# Altium integrated library Silicon Labs Low-Power MCUs.IntLib: 64 symbols (part 4 of 4)
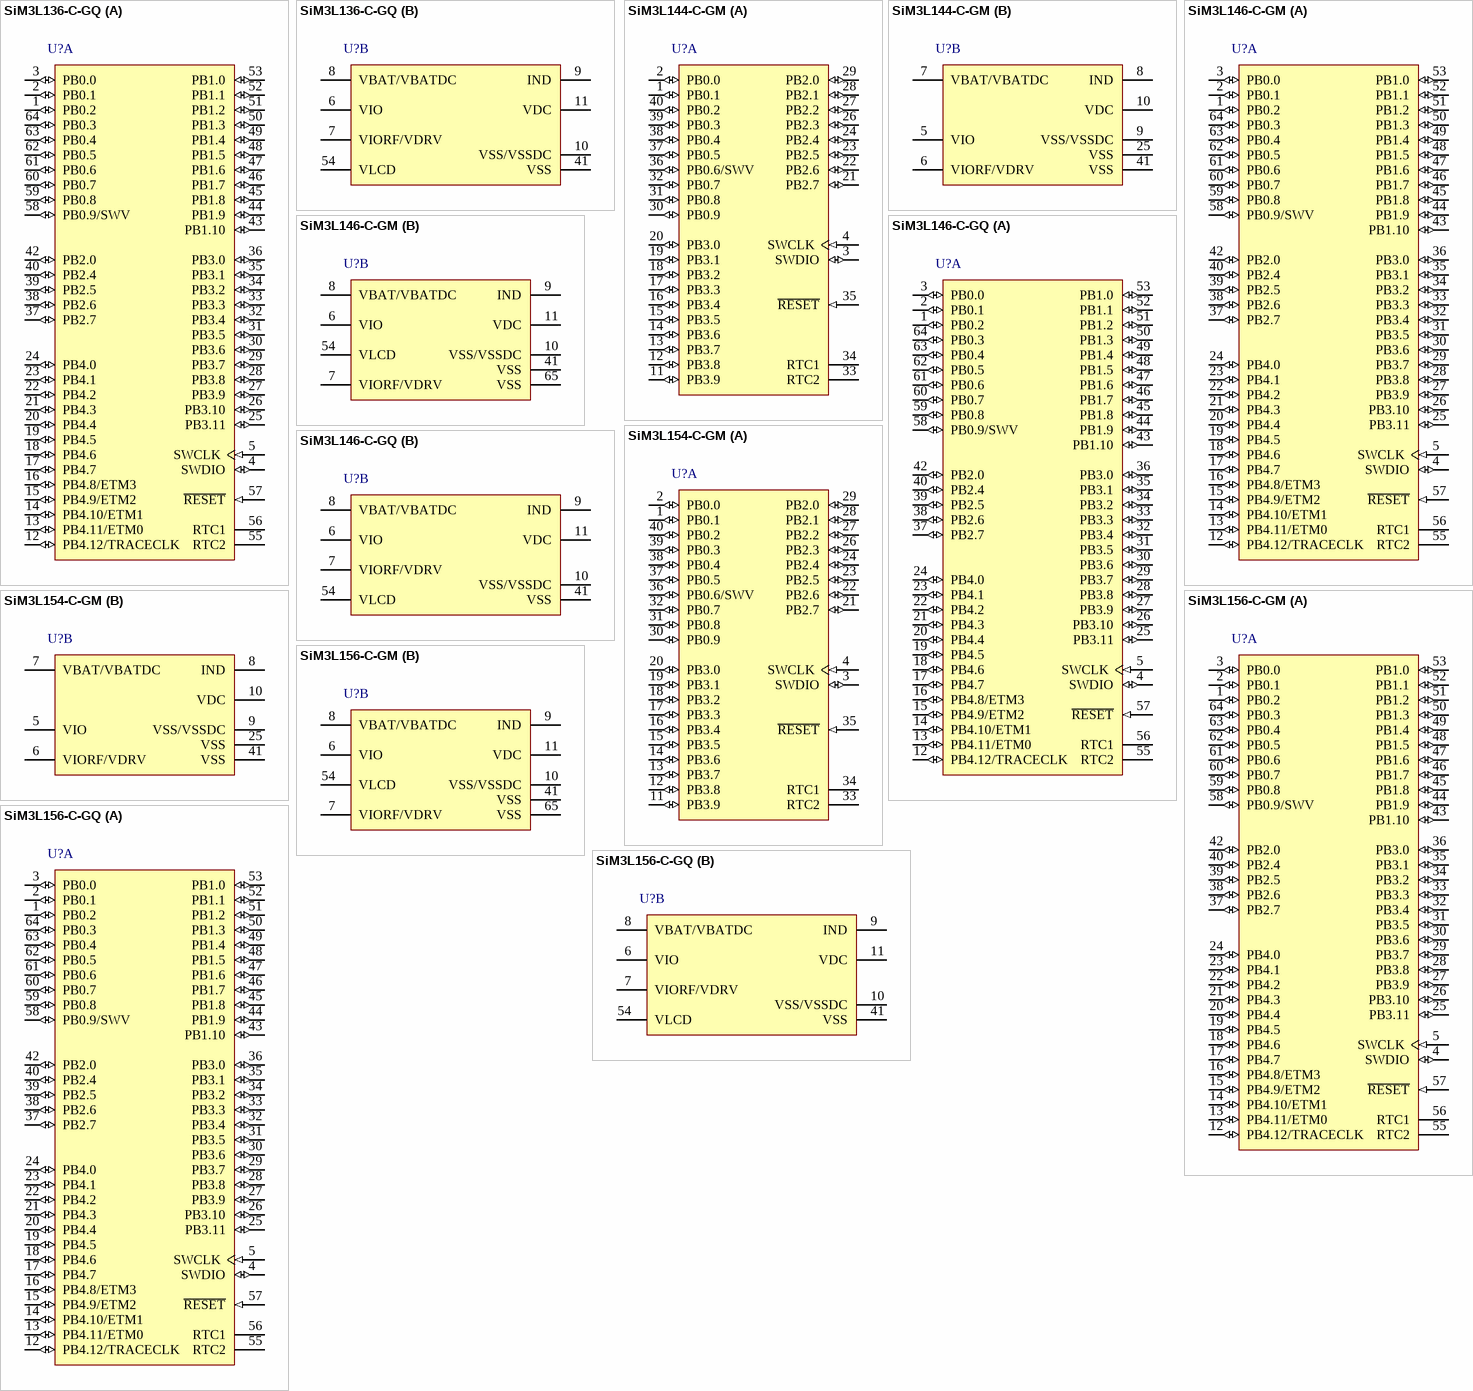
[diagram p8: symbols SiM3L136-C-GQ to SiM3L156-C-GQ]

## SiM3L144-C-GM
designator U?
High-Performance, Low-Power, 32-Bit Precision32(TM) MCU Family, 50 MHz, 16 kB RAM, 64 kB Flash, -40 to 85 degC, 40-pin QFN; Manufacturer: Silicon Labs; PartNumber: SiM3L144-C-GM; ADC 1: 12-bit, 20-ch., 250 ksps; Comparators: 2; DAC: 10-bit; Debug Interface: SW; Dig I/O Pins: 28; Flash: 64 kB; Internal Osc. Accuracy: +/-2%; MCU Core: ARM Cortex-M3; MHz: 50; PCA Channels: 6; RAM: 16 kB; Temp Sensor: TRUE; Timers (16-bit): 3; Sub-Family: Low-Power MCUs; DatasheetVersion: Rev. 0.5; PackageReference: QFN-40; PackageDescription: 40-Pin Quad-Flat No-Leads Package, Body 6 x 6 mm, Pitch 0.5 mm; Supplier 1: Digi-Key; Supplier Part Number 1: 336-2342-ND; Supplier 2: Mouser; Supplier Part Number 2: 634-SIM3L144-C-GM; Mounting Technology: Surface Mount; Code_JEDEC: MO-220; Code_IPC: J-STD-020; ComponentLink1Description: Manufacturer URL; ComponentLink1URL: http://www.silabs.com/; ComponentLink2Description: Datasheet; ComponentLink2URL: http://www.silabs.com/Support Documents/TechnicalDocs/SiM3L1xx.pdf; ComponentLink3Description: Package Specification; ComponentLink3URL: http://www.silabs.com/Support%20Documents/TechnicalDocs/SiM3L1xx.pdf
footprint SLAB-QFN-40-4500x4500TP_N (QFN, 40-Leads, Body 6x6mm, Pitch 0.5mm, Thermal Pad 4.5x4.5mm, IPC Medium Density)
footprint SLAB-QFN-40-4500x4500TP_L (QFN, 40-Leads, Body 6x6mm, Pitch 0.5mm, Thermal Pad 4.5x4.5mm, IPC High Density)
footprint SLAB-QFN-40-4500x4500TP_M (QFN, 40-Leads, Body 6x6mm, Pitch 0.5mm, Thermal Pad 4.5x4.5mm, IPC Low Density)
part A pins: 1 PB0.1 (io), 2 PB0.0 (io), 3 SWDIO (io), 4 SWCLK (in), 11 PB3.9 (io), 12 PB3.8 (io), 13 PB3.7 (io), 14 PB3.6 (io), 15 PB3.5 (io), 16 PB3.4 (io), 17 PB3.3 (io), 18 PB3.2 (io), 19 PB3.1 (io), 20 PB3.0 (io), 21 PB2.7 (io), 22 PB2.6 (io), 23 PB2.5 (io), 24 PB2.4 (io), 26 PB2.3 (io), 27 PB2.2 (io), 28 PB2.1 (io), 29 PB2.0 (io), 30 PB0.9 (io), 31 PB0.8 (io), 32 PB0.7 (io), 33 RTC2, 34 RTC1, 35 ~{RESET} (in), 36 PB0.6/SWV (io), 37 PB0.5 (io), 38 PB0.4 (io), 39 PB0.3 (io), 40 PB0.2 (io)
part B pins: 5 VIO (power), 6 VIORF/VDRV (power), 7 VBAT/VBATDC (power), 8 IND, 9 VSS/VSSDC (power), 10 VDC (power), 25 VSS (power), 41 VSS (power)

## SiM3L146-C-GM
designator U?
High-Performance, Low-Power, 32-Bit Precision32(TM) MCU Family, 50 MHz, 16 kB RAM, 64 kB Flash, -40 to 85 degC, 64-pin QFN; Manufacturer: Silicon Labs; PartNumber: SiM3L146-C-GM; ADC 1: 12-bit, 23-ch., 250 ksps; Comparators: 2; DAC: 10-bit; Debug Interface: ETM; SW; Dig I/O Pins: 51; Flash: 64 kB; Internal Osc. Accuracy: +/-2%; MCU Core: ARM Cortex-M3; MHz: 50; PCA Channels: 6; RAM: 16 kB; Temp Sensor: TRUE; Timers (16-bit): 3; Sub-Family: Low-Power MCUs; DatasheetVersion: Rev. 0.5; PackageReference: QFN-64; PackageDescription: 64-Pin Quad-Flat No-Leads Package, Body 9 x 9 mm, Pitch 0.5 mm; Supplier 1: Digi-Key; Supplier Part Number 1: 336-2337-ND; Supplier 2: Mouser; Supplier Part Number 2: 634-SIM3L146-C-GM; Mounting Technology: Surface Mount; Code_JEDEC: MO-220; Code_IPC: J-STD-020; ComponentLink1Description: Manufacturer URL; ComponentLink1URL: http://www.silabs.com/; ComponentLink2Description: Datasheet; ComponentLink2URL: http://www.silabs.com/Support Documents/TechnicalDocs/SiM3L1xx.pdf; ComponentLink3Description: Package Specification; ComponentLink3URL: http://www.silabs.com/Support%20Documents/TechnicalDocs/SiM3U1xx.pdf
footprint SLAB-QFN-64-4100x4100TP_N (QFN, 64-Leads, Body 9x9mm, Pitch 0.5mm, Thermal Pad 4.1x4.1mm, IPC Medium Density)
footprint SLAB-QFN-64-4100x4100TP_L (QFN, 64-Leads, Body 9x9mm, Pitch 0.5mm, Thermal Pad 4.1x4.1mm, IPC High Density)
footprint SLAB-QFN-64-4100x4100TP_M (QFN, 64-Leads, Body 9x9mm, Pitch 0.5mm, Thermal Pad 4.1x4.1mm, IPC Low Density)
part A pins: 1 PB0.2 (io), 2 PB0.1 (io), 3 PB0.0 (io), 4 SWDIO (io), 5 SWCLK (in), 12 PB4.12/TRACECLK (io), 13 PB4.11/ETM0 (io), 14 PB4.10/ETM1 (io), 15 PB4.9/ETM2 (io), 16 PB4.8/ETM3 (io), 17 PB4.7 (io), 18 PB4.6 (io), 19 PB4.5 (io), 20 PB4.4 (io), 21 PB4.3 (io), 22 PB4.2 (io), 23 PB4.1 (io), 24 PB4.0 (io), 25 PB3.11 (io), 26 PB3.10 (io), 27 PB3.9 (io), 28 PB3.8 (io), 29 PB3.7 (io), 30 PB3.6 (io), 31 PB3.5 (io), 32 PB3.4 (io), 33 PB3.3 (io), 34 PB3.2 (io), 35 PB3.1 (io), 36 PB3.0 (io), 37 PB2.7 (io), 38 PB2.6 (io), 39 PB2.5 (io), 40 PB2.4 (io), 42 PB2.0 (io), 43 PB1.10 (io), 44 PB1.9 (io), 45 PB1.8 (io), 46 PB1.7 (io), 47 PB1.6 (io), 48 PB1.5 (io), 49 PB1.4 (io), 50 PB1.3 (io), 51 PB1.2 (io), 52 PB1.1 (io), 53 PB1.0 (io), 55 RTC2, 56 RTC1, 57 ~{RESET} (in), 58 PB0.9/SWV (io), 59 PB0.8 (io), 60 PB0.7 (io), 61 PB0.6 (io), 62 PB0.5 (io), 63 PB0.4 (io), 64 PB0.3 (io)
part B pins: 6 VIO (power), 7 VIORF/VDRV (power), 8 VBAT/VBATDC (power), 9 IND, 10 VSS/VSSDC (power), 11 VDC (power), 41 VSS (power), 54 VLCD (power), 65 VSS (power)

## SiM3L146-C-GQ
designator U?
High-Performance, Low-Power, 32-Bit Precision32(TM) MCU Family, 50 MHz, 16 kB RAM, 64 kB Flash, -40 to 85 degC, 64-pin QFP; Manufacturer: Silicon Labs; PartNumber: SiM3L146-C-GQ; ADC 1: 12-bit, 23-ch., 250 ksps; Comparators: 2; DAC: 10-bit; Debug Interface: ETM; SW; Dig I/O Pins: 51; Flash: 64 kB; Internal Osc. Accuracy: +/-2%; MCU Core: ARM Cortex-M3; MHz: 50; PCA Channels: 6; RAM: 16 kB; Temp Sensor: TRUE; Timers (16-bit): 3; Sub-Family: Low-Power MCUs; DatasheetVersion: Rev. 0.5; PackageReference: TQFP-64; PackageDescription: 64-Pin Thin Quad Flat Package, Body 10 x 10 mm, Pitch 0.5 mm; Supplier 1: Digi-Key; Supplier Part Number 1: 336-2336-ND; Supplier 2: Mouser; Supplier Part Number 2: 634-SIM3L146-C-GQ; Mounting Technology: Surface Mount; Code_JEDEC: MS-026; Code_IPC: J-STD-020; ComponentLink1Description: Manufacturer URL; ComponentLink1URL: http://www.silabs.com/; ComponentLink2Description: Datasheet; ComponentLink2URL: http://www.silabs.com/Support Documents/TechnicalDocs/SiM3L1xx.pdf; ComponentLink3Description: Package Specification; ComponentLink3URL: http://www.silabs.com/Support%20Documents/TechnicalDocs/C8051F70x.pdf
footprint SLAB-TQFP-64_N (QFP, 64-Leads, Body 10x10mm, Pitch 0.5mm, IPC Medium Density)
footprint SLAB-TQFP-64_L (QFP, 64-Leads, Body 10x10mm, Pitch 0.5mm, IPC High Density)
footprint SLAB-TQFP-64_M (QFP, 64-Leads, Body 10x10mm, Pitch 0.5mm, IPC Low Density)
part A pins: 1 PB0.2 (io), 2 PB0.1 (io), 3 PB0.0 (io), 4 SWDIO (io), 5 SWCLK (in), 12 PB4.12/TRACECLK (io), 13 PB4.11/ETM0 (io), 14 PB4.10/ETM1 (io), 15 PB4.9/ETM2 (io), 16 PB4.8/ETM3 (io), 17 PB4.7 (io), 18 PB4.6 (io), 19 PB4.5 (io), 20 PB4.4 (io), 21 PB4.3 (io), 22 PB4.2 (io), 23 PB4.1 (io), 24 PB4.0 (io), 25 PB3.11 (io), 26 PB3.10 (io), 27 PB3.9 (io), 28 PB3.8 (io), 29 PB3.7 (io), 30 PB3.6 (io), 31 PB3.5 (io), 32 PB3.4 (io), 33 PB3.3 (io), 34 PB3.2 (io), 35 PB3.1 (io), 36 PB3.0 (io), 37 PB2.7 (io), 38 PB2.6 (io), 39 PB2.5 (io), 40 PB2.4 (io), 42 PB2.0 (io), 43 PB1.10 (io), 44 PB1.9 (io), 45 PB1.8 (io), 46 PB1.7 (io), 47 PB1.6 (io), 48 PB1.5 (io), 49 PB1.4 (io), 50 PB1.3 (io), 51 PB1.2 (io), 52 PB1.1 (io), 53 PB1.0 (io), 55 RTC2, 56 RTC1, 57 ~{RESET} (in), 58 PB0.9/SWV (io), 59 PB0.8 (io), 60 PB0.7 (io), 61 PB0.6 (io), 62 PB0.5 (io), 63 PB0.4 (io), 64 PB0.3 (io)
part B pins: 6 VIO (power), 7 VIORF/VDRV (power), 8 VBAT/VBATDC (power), 9 IND, 10 VSS/VSSDC (power), 11 VDC (power), 41 VSS (power), 54 VLCD (power)

## SiM3L154-C-GM
designator U?
High-Performance, Low-Power, 32-Bit Precision32(TM) MCU Family, 50 MHz, 32 kB RAM, 128 kB Flash, -40 to 85 degC, 40-pin QFN; Manufacturer: Silicon Labs; PartNumber: SiM3L154-C-GM; ADC 1: 12-bit, 20-ch., 250 ksps; Comparators: 2; DAC: 10-bit; Debug Interface: SW; Dig I/O Pins: 28; Flash: 128 kB; Internal Osc. Accuracy: +/-2%; MCU Core: ARM Cortex-M3; MHz: 50; PCA Channels: 6; RAM: 32 kB; Temp Sensor: TRUE; Timers (16-bit): 3; Sub-Family: Low-Power MCUs; DatasheetVersion: Rev. 0.5; PackageReference: QFN-40; PackageDescription: 40-Pin Quad-Flat No-Leads Package, Body 6 x 6 mm, Pitch 0.5 mm; Supplier 1: Digi-Key; Supplier Part Number 1: 336-2340-ND; Supplier 2: Mouser; Supplier Part Number 2: 634-SIM3L154-C-GM; Mounting Technology: Surface Mount; Code_JEDEC: MO-220; Code_IPC: J-STD-020; ComponentLink1Description: Manufacturer URL; ComponentLink1URL: http://www.silabs.com/; ComponentLink2Description: Datasheet; ComponentLink2URL: http://www.silabs.com/Support Documents/TechnicalDocs/SiM3L1xx.pdf; ComponentLink3Description: Package Specification; ComponentLink3URL: http://www.silabs.com/Support%20Documents/TechnicalDocs/SiM3L1xx.pdf
footprint SLAB-QFN-40-4500x4500TP_N (QFN, 40-Leads, Body 6x6mm, Pitch 0.5mm, Thermal Pad 4.5x4.5mm, IPC Medium Density)
footprint SLAB-QFN-40-4500x4500TP_L (QFN, 40-Leads, Body 6x6mm, Pitch 0.5mm, Thermal Pad 4.5x4.5mm, IPC High Density)
footprint SLAB-QFN-40-4500x4500TP_M (QFN, 40-Leads, Body 6x6mm, Pitch 0.5mm, Thermal Pad 4.5x4.5mm, IPC Low Density)
part A pins: 1 PB0.1 (io), 2 PB0.0 (io), 3 SWDIO (io), 4 SWCLK (in), 11 PB3.9 (io), 12 PB3.8 (io), 13 PB3.7 (io), 14 PB3.6 (io), 15 PB3.5 (io), 16 PB3.4 (io), 17 PB3.3 (io), 18 PB3.2 (io), 19 PB3.1 (io), 20 PB3.0 (io), 21 PB2.7 (io), 22 PB2.6 (io), 23 PB2.5 (io), 24 PB2.4 (io), 26 PB2.3 (io), 27 PB2.2 (io), 28 PB2.1 (io), 29 PB2.0 (io), 30 PB0.9 (io), 31 PB0.8 (io), 32 PB0.7 (io), 33 RTC2, 34 RTC1, 35 ~{RESET} (in), 36 PB0.6/SWV (io), 37 PB0.5 (io), 38 PB0.4 (io), 39 PB0.3 (io), 40 PB0.2 (io)
part B pins: 5 VIO (power), 6 VIORF/VDRV (power), 7 VBAT/VBATDC (power), 8 IND, 9 VSS/VSSDC (power), 10 VDC (power), 25 VSS (power), 41 VSS (power)

## SiM3L156-C-GM
designator U?
High-Performance, Low-Power, 32-Bit Precision32(TM) MCU Family, 50 MHz, 32 kB RAM, 128 kB Flash, -40 to 85 degC, 64-pin QFN; Manufacturer: Silicon Labs; PartNumber: SiM3L156-C-GM; ADC 1: 12-bit, 23-ch., 250 ksps; Comparators: 2; DAC: 10-bit; Debug Interface: ETM; SW; Dig I/O Pins: 51; Flash: 128 kB; Internal Osc. Accuracy: +/-2%; MCU Core: ARM Cortex-M3; MHz: 50; PCA Channels: 6; RAM: 32 kB; Temp Sensor: TRUE; Timers (16-bit): 3; Sub-Family: Low-Power MCUs; DatasheetVersion: Rev. 0.5; PackageReference: QFN-64; PackageDescription: 64-Pin Quad-Flat No-Leads Package, Body 9 x 9 mm, Pitch 0.5 mm; Supplier 1: Digi-Key; Supplier Part Number 1: 336-2338-ND; Supplier 2: Mouser; Supplier Part Number 2: 634-SIM3L156-C-GM; Mounting Technology: Surface Mount; Code_JEDEC: MO-220; Code_IPC: J-STD-020; ComponentLink1Description: Manufacturer URL; ComponentLink1URL: http://www.silabs.com/; ComponentLink2Description: Datasheet; ComponentLink2URL: http://www.silabs.com/Support Documents/TechnicalDocs/SiM3L1xx.pdf; ComponentLink3Description: Package Specification; ComponentLink3URL: http://www.silabs.com/Support%20Documents/TechnicalDocs/SiM3U1xx.pdf
footprint SLAB-QFN-64-4100x4100TP_N (QFN, 64-Leads, Body 9x9mm, Pitch 0.5mm, Thermal Pad 4.1x4.1mm, IPC Medium Density)
footprint SLAB-QFN-64-4100x4100TP_L (QFN, 64-Leads, Body 9x9mm, Pitch 0.5mm, Thermal Pad 4.1x4.1mm, IPC High Density)
footprint SLAB-QFN-64-4100x4100TP_M (QFN, 64-Leads, Body 9x9mm, Pitch 0.5mm, Thermal Pad 4.1x4.1mm, IPC Low Density)
part A pins: 1 PB0.2 (io), 2 PB0.1 (io), 3 PB0.0 (io), 4 SWDIO (io), 5 SWCLK (in), 12 PB4.12/TRACECLK (io), 13 PB4.11/ETM0 (io), 14 PB4.10/ETM1 (io), 15 PB4.9/ETM2 (io), 16 PB4.8/ETM3 (io), 17 PB4.7 (io), 18 PB4.6 (io), 19 PB4.5 (io), 20 PB4.4 (io), 21 PB4.3 (io), 22 PB4.2 (io), 23 PB4.1 (io), 24 PB4.0 (io), 25 PB3.11 (io), 26 PB3.10 (io), 27 PB3.9 (io), 28 PB3.8 (io), 29 PB3.7 (io), 30 PB3.6 (io), 31 PB3.5 (io), 32 PB3.4 (io), 33 PB3.3 (io), 34 PB3.2 (io), 35 PB3.1 (io), 36 PB3.0 (io), 37 PB2.7 (io), 38 PB2.6 (io), 39 PB2.5 (io), 40 PB2.4 (io), 42 PB2.0 (io), 43 PB1.10 (io), 44 PB1.9 (io), 45 PB1.8 (io), 46 PB1.7 (io), 47 PB1.6 (io), 48 PB1.5 (io), 49 PB1.4 (io), 50 PB1.3 (io), 51 PB1.2 (io), 52 PB1.1 (io), 53 PB1.0 (io), 55 RTC2, 56 RTC1, 57 ~{RESET} (in), 58 PB0.9/SWV (io), 59 PB0.8 (io), 60 PB0.7 (io), 61 PB0.6 (io), 62 PB0.5 (io), 63 PB0.4 (io), 64 PB0.3 (io)
part B pins: 6 VIO (power), 7 VIORF/VDRV (power), 8 VBAT/VBATDC (power), 9 IND, 10 VSS/VSSDC (power), 11 VDC (power), 41 VSS (power), 54 VLCD (power), 65 VSS (power)

## SiM3L156-C-GQ
designator U?
High-Performance, Low-Power, 32-Bit Precision32(TM) MCU Family, 50 MHz, 32 kB RAM, 128 kB Flash, -40 to 85 degC, 64-pin QFP; Manufacturer: Silicon Labs; PartNumber: SiM3L156-C-GQ; ADC 1: 12-bit, 23-ch., 250 ksps; Comparators: 2; DAC: 10-bit; Debug Interface: ETM; SW; Dig I/O Pins: 51; Flash: 128 kB; Internal Osc. Accuracy: +/-2%; MCU Core: ARM Cortex-M3; MHz: 50; PCA Channels: 6; RAM: 32 kB; Temp Sensor: TRUE; Timers (16-bit): 3; Sub-Family: Low-Power MCUs; DatasheetVersion: Rev. 0.5; PackageReference: TQFP-64; PackageDescription: 64-Pin Thin Quad Flat Package, Body 10 x 10 mm, Pitch 0.5 mm; Supplier 1: Digi-Key; Supplier Part Number 1: 336-2339-ND; Supplier 2: Mouser; Supplier Part Number 2: 634-SIM3L156-C-GQ; Mounting Technology: Surface Mount; Code_JEDEC: MS-026; Code_IPC: J-STD-020; ComponentLink1Description: Manufacturer URL; ComponentLink1URL: http://www.silabs.com/; ComponentLink2Description: Datasheet; ComponentLink2URL: http://www.silabs.com/Support Documents/TechnicalDocs/SiM3L1xx.pdf; ComponentLink3Description: Package Specification; ComponentLink3URL: http://www.silabs.com/Support%20Documents/TechnicalDocs/C8051F70x.pdf
footprint SLAB-TQFP-64_N (QFP, 64-Leads, Body 10x10mm, Pitch 0.5mm, IPC Medium Density)
footprint SLAB-TQFP-64_L (QFP, 64-Leads, Body 10x10mm, Pitch 0.5mm, IPC High Density)
footprint SLAB-TQFP-64_M (QFP, 64-Leads, Body 10x10mm, Pitch 0.5mm, IPC Low Density)
part A pins: 1 PB0.2 (io), 2 PB0.1 (io), 3 PB0.0 (io), 4 SWDIO (io), 5 SWCLK (in), 12 PB4.12/TRACECLK (io), 13 PB4.11/ETM0 (io), 14 PB4.10/ETM1 (io), 15 PB4.9/ETM2 (io), 16 PB4.8/ETM3 (io), 17 PB4.7 (io), 18 PB4.6 (io), 19 PB4.5 (io), 20 PB4.4 (io), 21 PB4.3 (io), 22 PB4.2 (io), 23 PB4.1 (io), 24 PB4.0 (io), 25 PB3.11 (io), 26 PB3.10 (io), 27 PB3.9 (io), 28 PB3.8 (io), 29 PB3.7 (io), 30 PB3.6 (io), 31 PB3.5 (io), 32 PB3.4 (io), 33 PB3.3 (io), 34 PB3.2 (io), 35 PB3.1 (io), 36 PB3.0 (io), 37 PB2.7 (io), 38 PB2.6 (io), 39 PB2.5 (io), 40 PB2.4 (io), 42 PB2.0 (io), 43 PB1.10 (io), 44 PB1.9 (io), 45 PB1.8 (io), 46 PB1.7 (io), 47 PB1.6 (io), 48 PB1.5 (io), 49 PB1.4 (io), 50 PB1.3 (io), 51 PB1.2 (io), 52 PB1.1 (io), 53 PB1.0 (io), 55 RTC2, 56 RTC1, 57 ~{RESET} (in), 58 PB0.9/SWV (io), 59 PB0.8 (io), 60 PB0.7 (io), 61 PB0.6 (io), 62 PB0.5 (io), 63 PB0.4 (io), 64 PB0.3 (io)
part B pins: 6 VIO (power), 7 VIORF/VDRV (power), 8 VBAT/VBATDC (power), 9 IND, 10 VSS/VSSDC (power), 11 VDC (power), 41 VSS (power), 54 VLCD (power)

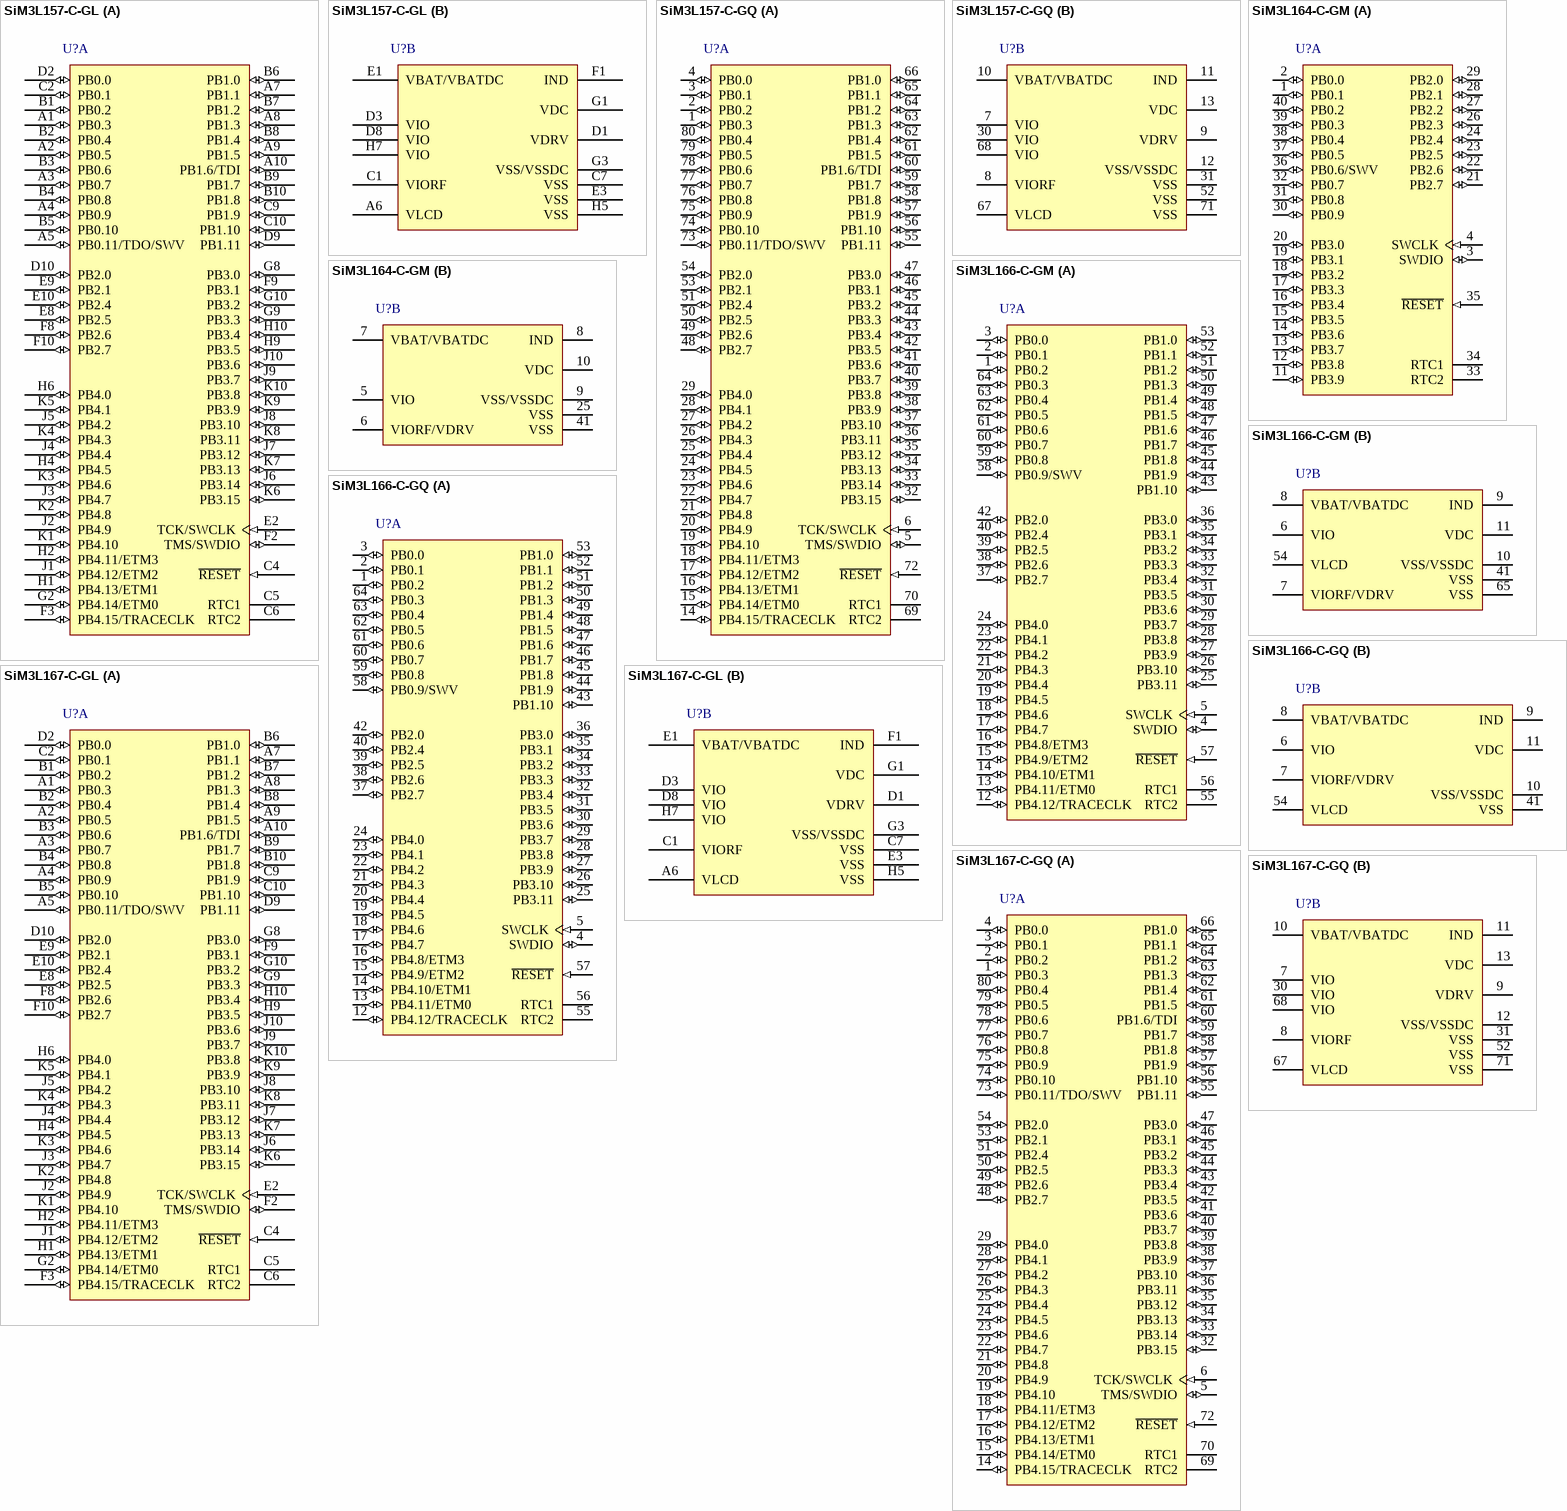
[diagram p5: symbols SiM3L157-C-GL to SiM3L167-C-GQ]

## SiM3L157-C-GL
designator U?
High-Performance, Low-Power, 32-Bit Precision32(TM) MCU Family, 50 MHz, 32 kB RAM, 128 kB Flash, -40 to 85 degC, 80-pin BGA; Manufacturer: Silicon Labs; PartNumber: SiM3L157-C-GL; ADC 1: 12-bit, 24-ch., 250 ksps; Comparators: 2; DAC: 10-bit; Debug Interface: ETM; JTAG; SW; Dig I/O Pins: 62; Flash: 128 kB; Internal Osc. Accuracy: +/-2%; MCU Core: ARM Cortex-M3; MHz: 50; PCA Channels: 6; RAM: 32 kB; Temp Sensor: TRUE; Timers (16-bit): 3; Sub-Family: Low-Power MCUs; DatasheetVersion: Rev. 0.5; PackageReference: TFBGA-80; PackageDescription: 80-Ball TFBGA, Body 5.5 x 5.5 mm, Pitch 0.5 mm; Supplier 1: Mouser; Supplier Part Number 1: 634-SIM3L157-C-GL; Mounting Technology: Surface Mount; Code_IPC: J-STD-020; ComponentLink1Description: Manufacturer URL; ComponentLink1URL: http://www.silabs.com/; ComponentLink2Description: Datasheet; ComponentLink2URL: http://www.silabs.com/Support Documents/TechnicalDocs/SiM3L1xx.pdf; ComponentLink3Description: Package Specification; ComponentLink3URL: http://www.silabs.com/Support%20Documents/TechnicalDocs/SiM3L1xx.pdf
footprint SLAB-TFBGA-80 (BGA, 80-Balls, Body 5.5x5.5mm, Pitch 0.5mm)
part A pins: A1 PB0.3 (io), A2 PB0.5 (io), A3 PB0.7 (io), A4 PB0.9 (io), A5 PB0.11/TDO/SWV (io), A7 PB1.1 (io), A8 PB1.3 (io), A9 PB1.5 (io), A10 PB1.6/TDI (io), B1 PB0.2 (io), B2 PB0.4 (io), B3 PB0.6 (io), B4 PB0.8 (io), B5 PB0.10 (io), B6 PB1.0 (io), B7 PB1.2 (io), B8 PB1.4 (io), B9 PB1.7 (io), B10 PB1.8 (io), C2 PB0.1 (io), C4 ~{RESET} (in), C5 RTC1, C6 RTC2, C9 PB1.9 (io), C10 PB1.10 (io), D2 PB0.0 (io), D9 PB1.11 (io), D10 PB2.0 (io), E2 TCK/SWCLK (in), E8 PB2.5 (io), E9 PB2.1 (io), E10 PB2.4 (io), F2 TMS/SWDIO (io), F3 PB4.15/TRACECLK (io), F8 PB2.6 (io), F9 PB3.1 (io), F10 PB2.7 (io), G2 PB4.14/ETM0 (io), G8 PB3.0 (io), G9 PB3.3 (io), G10 PB3.2 (io), H1 PB4.13/ETM1 (io), H2 PB4.11/ETM3 (io), H4 PB4.5 (io), H6 PB4.0 (io), H9 PB3.5 (io), H10 PB3.4 (io), J1 PB4.12/ETM2 (io), J2 PB4.9 (io), J3 PB4.7 (io), J4 PB4.4 (io), J5 PB4.2 (io), J6 PB3.14 (io), J7 PB3.12 (io), J8 PB3.10 (io), J9 PB3.7 (io), J10 PB3.6 (io), K1 PB4.10 (io), K2 PB4.8 (io), K3 PB4.6 (io), K4 PB4.3 (io), K5 PB4.1 (io), K6 PB3.15 (io), K7 PB3.13 (io), K8 PB3.11 (io), K9 PB3.9 (io), K10 PB3.8 (io)
part B pins: A6 VLCD (power), C1 VIORF (power), C7 VSS (power), D1 VDRV (power), D3 VIO (power), D8 VIO (power), E1 VBAT/VBATDC (power), E3 VSS (power), F1 IND, G1 VDC (power), G3 VSS/VSSDC (power), H5 VSS (power), H7 VIO (power)

## SiM3L157-C-GQ
designator U?
High-Performance, Low-Power, 32-Bit Precision32(TM) MCU Family, 50 MHz, 32 kB RAM, 128 kB Flash, -40 to 85 degC, 80-pin QFP; Manufacturer: Silicon Labs; PartNumber: SiM3L157-C-GQ; ADC 1: 12-bit, 24-ch., 250 ksps; Comparators: 2; DAC: 10-bit; Debug Interface: ETM; JTAG; SW; Dig I/O Pins: 62; Flash: 128 kB; Internal Osc. Accuracy: +/-2%; MCU Core: ARM Cortex-M3; MHz: 50; PCA Channels: 6; RAM: 32 kB; Temp Sensor: TRUE; Timers (16-bit): 3; Sub-Family: Low-Power MCUs; DatasheetVersion: Rev. 0.5; PackageReference: TQFP-80; PackageDescription: 80-Pin Thin Quad Flat Package, Body 12 x 12 mm, Pitch 0.5 mm; Supplier 1: Digi-Key; Supplier Part Number 1: 336-2341-ND; Supplier 2: Mouser; Supplier Part Number 2: 634-SIM3L157-C-GQ; Mounting Technology: Surface Mount; Code_JEDEC: MS-026; Code_IPC: J-STD-020; ComponentLink1Description: Manufacturer URL; ComponentLink1URL: http://www.silabs.com/; ComponentLink2Description: Datasheet; ComponentLink2URL: http://www.silabs.com/Support Documents/TechnicalDocs/SiM3L1xx.pdf; ComponentLink3Description: Package Specification; ComponentLink3URL: http://www.silabs.com/Support%20Documents/TechnicalDocs/SiM3L1xx.pdf
footprint SLAB-TQFP-80_N (QFP, 80-Leads, Body 12x12mm, Pitch 0.5mm, IPC Medium Density)
footprint SLAB-TQFP-80_L (QFP, 80-Leads, Body 12x12mm, Pitch 0.5mm, IPC High Density)
footprint SLAB-TQFP-80_M (QFP, 80-Leads, Body 12x12mm, Pitch 0.5mm, IPC Low Density)
part A pins: 1 PB0.3 (io), 2 PB0.2 (io), 3 PB0.1 (io), 4 PB0.0 (io), 5 TMS/SWDIO (io), 6 TCK/SWCLK (in), 14 PB4.15/TRACECLK (io), 15 PB4.14/ETM0 (io), 16 PB4.13/ETM1 (io), 17 PB4.12/ETM2 (io), 18 PB4.11/ETM3 (io), 19 PB4.10 (io), 20 PB4.9 (io), 21 PB4.8 (io), 22 PB4.7 (io), 23 PB4.6 (io), 24 PB4.5 (io), 25 PB4.4 (io), 26 PB4.3 (io), 27 PB4.2 (io), 28 PB4.1 (io), 29 PB4.0 (io), 32 PB3.15 (io), 33 PB3.14 (io), 34 PB3.13 (io), 35 PB3.12 (io), 36 PB3.11 (io), 37 PB3.10 (io), 38 PB3.9 (io), 39 PB3.8 (io), 40 PB3.7 (io), 41 PB3.6 (io), 42 PB3.5 (io), 43 PB3.4 (io), 44 PB3.3 (io), 45 PB3.2 (io), 46 PB3.1 (io), 47 PB3.0 (io), 48 PB2.7 (io), 49 PB2.6 (io), 50 PB2.5 (io), 51 PB2.4 (io), 53 PB2.1 (io), 54 PB2.0 (io), 55 PB1.11 (io), 56 PB1.10 (io), 57 PB1.9 (io), 58 PB1.8 (io), 59 PB1.7 (io), 60 PB1.6/TDI (io), 61 PB1.5 (io), 62 PB1.4 (io), 63 PB1.3 (io), 64 PB1.2 (io), 65 PB1.1 (io), 66 PB1.0 (io), 69 RTC2, 70 RTC1, 72 ~{RESET} (in), 73 PB0.11/TDO/SWV (io), 74 PB0.10 (io), 75 PB0.9 (io), 76 PB0.8 (io), 77 PB0.7 (io), 78 PB0.6 (io), 79 PB0.5 (io), 80 PB0.4 (io)
part B pins: 7 VIO (power), 8 VIORF (power), 9 VDRV (power), 10 VBAT/VBATDC (power), 11 IND, 12 VSS/VSSDC (power), 13 VDC (power), 30 VIO (power), 31 VSS (power), 52 VSS (power), 67 VLCD (power), 68 VIO (power), 71 VSS (power)

## SiM3L164-C-GM
designator U?
High-Performance, Low-Power, 32-Bit Precision32(TM) MCU Family, 50 MHz, 32 kB RAM, 256 kB Flash, -40 to 85 degC, 40-pin QFN; Manufacturer: Silicon Labs; PartNumber: SiM3L164-C-GM; ADC 1: 12-bit, 20-ch., 250 ksps; Comparators: 2; DAC: 10-bit; Debug Interface: SW; Dig I/O Pins: 28; Flash: 256 kB; Internal Osc. Accuracy: +/-2%; MCU Core: ARM Cortex-M3; MHz: 50; PCA Channels: 6; RAM: 32 kB; Temp Sensor: TRUE; Timers (16-bit): 3; Sub-Family: Low-Power MCUs; DatasheetVersion: Rev. 0.5; PackageReference: QFN-40; PackageDescription: 40-Pin Quad-Flat No-Leads Package, Body 6 x 6 mm, Pitch 0.5 mm; Supplier 1: Digi-Key; Supplier Part Number 1: 336-2351-ND; Supplier 2: Mouser; Supplier Part Number 2: 634-SIM3L164-C-GM; Mounting Technology: Surface Mount; Code_JEDEC: MO-220; Code_IPC: J-STD-020; ComponentLink1Description: Manufacturer URL; ComponentLink1URL: http://www.silabs.com/; ComponentLink2Description: Datasheet; ComponentLink2URL: http://www.silabs.com/Support Documents/TechnicalDocs/SiM3L1xx.pdf; ComponentLink3Description: Package Specification; ComponentLink3URL: http://www.silabs.com/Support%20Documents/TechnicalDocs/SiM3L1xx.pdf
footprint SLAB-QFN-40-4500x4500TP_N (QFN, 40-Leads, Body 6x6mm, Pitch 0.5mm, Thermal Pad 4.5x4.5mm, IPC Medium Density)
footprint SLAB-QFN-40-4500x4500TP_L (QFN, 40-Leads, Body 6x6mm, Pitch 0.5mm, Thermal Pad 4.5x4.5mm, IPC High Density)
footprint SLAB-QFN-40-4500x4500TP_M (QFN, 40-Leads, Body 6x6mm, Pitch 0.5mm, Thermal Pad 4.5x4.5mm, IPC Low Density)
part A pins: 1 PB0.1 (io), 2 PB0.0 (io), 3 SWDIO (io), 4 SWCLK (in), 11 PB3.9 (io), 12 PB3.8 (io), 13 PB3.7 (io), 14 PB3.6 (io), 15 PB3.5 (io), 16 PB3.4 (io), 17 PB3.3 (io), 18 PB3.2 (io), 19 PB3.1 (io), 20 PB3.0 (io), 21 PB2.7 (io), 22 PB2.6 (io), 23 PB2.5 (io), 24 PB2.4 (io), 26 PB2.3 (io), 27 PB2.2 (io), 28 PB2.1 (io), 29 PB2.0 (io), 30 PB0.9 (io), 31 PB0.8 (io), 32 PB0.7 (io), 33 RTC2, 34 RTC1, 35 ~{RESET} (in), 36 PB0.6/SWV (io), 37 PB0.5 (io), 38 PB0.4 (io), 39 PB0.3 (io), 40 PB0.2 (io)
part B pins: 5 VIO (power), 6 VIORF/VDRV (power), 7 VBAT/VBATDC (power), 8 IND, 9 VSS/VSSDC (power), 10 VDC (power), 25 VSS (power), 41 VSS (power)

## SiM3L166-C-GM
designator U?
High-Performance, Low-Power, 32-Bit Precision32(TM) MCU Family, 50 MHz, 32 kB RAM, 256 kB Flash, -40 to 85 degC, 64-pin QFN; Manufacturer: Silicon Labs; PartNumber: SiM3L166-C-GM; ADC 1: 12-bit, 23-ch., 250 ksps; Comparators: 2; DAC: 10-bit; Debug Interface: ETM; SW; Dig I/O Pins: 51; Flash: 256 kB; Internal Osc. Accuracy: +/-2%; MCU Core: ARM Cortex-M3; MHz: 50; PCA Channels: 6; RAM: 32 kB; Temp Sensor: TRUE; Timers (16-bit): 3; Sub-Family: Low-Power MCUs; DatasheetVersion: Rev. 0.5; PackageReference: QFN-64; PackageDescription: 64-Pin Quad-Flat No-Leads Package, Body 9 x 9 mm, Pitch 0.5 mm; Supplier 1: Digi-Key; Supplier Part Number 1: 336-2348-ND; Supplier 2: Mouser; Supplier Part Number 2: 634-SIM3L166-C-GM; Mounting Technology: Surface Mount; Code_JEDEC: MO-220; Code_IPC: J-STD-020; ComponentLink1Description: Manufacturer URL; ComponentLink1URL: http://www.silabs.com/; ComponentLink2Description: Datasheet; ComponentLink2URL: http://www.silabs.com/Support Documents/TechnicalDocs/SiM3L1xx.pdf; ComponentLink3Description: Package Specification; ComponentLink3URL: http://www.silabs.com/Support%20Documents/TechnicalDocs/SiM3U1xx.pdf
footprint SLAB-QFN-64-4100x4100TP_N (QFN, 64-Leads, Body 9x9mm, Pitch 0.5mm, Thermal Pad 4.1x4.1mm, IPC Medium Density)
footprint SLAB-QFN-64-4100x4100TP_L (QFN, 64-Leads, Body 9x9mm, Pitch 0.5mm, Thermal Pad 4.1x4.1mm, IPC High Density)
footprint SLAB-QFN-64-4100x4100TP_M (QFN, 64-Leads, Body 9x9mm, Pitch 0.5mm, Thermal Pad 4.1x4.1mm, IPC Low Density)
part A pins: 1 PB0.2 (io), 2 PB0.1 (io), 3 PB0.0 (io), 4 SWDIO (io), 5 SWCLK (in), 12 PB4.12/TRACECLK (io), 13 PB4.11/ETM0 (io), 14 PB4.10/ETM1 (io), 15 PB4.9/ETM2 (io), 16 PB4.8/ETM3 (io), 17 PB4.7 (io), 18 PB4.6 (io), 19 PB4.5 (io), 20 PB4.4 (io), 21 PB4.3 (io), 22 PB4.2 (io), 23 PB4.1 (io), 24 PB4.0 (io), 25 PB3.11 (io), 26 PB3.10 (io), 27 PB3.9 (io), 28 PB3.8 (io), 29 PB3.7 (io), 30 PB3.6 (io), 31 PB3.5 (io), 32 PB3.4 (io), 33 PB3.3 (io), 34 PB3.2 (io), 35 PB3.1 (io), 36 PB3.0 (io), 37 PB2.7 (io), 38 PB2.6 (io), 39 PB2.5 (io), 40 PB2.4 (io), 42 PB2.0 (io), 43 PB1.10 (io), 44 PB1.9 (io), 45 PB1.8 (io), 46 PB1.7 (io), 47 PB1.6 (io), 48 PB1.5 (io), 49 PB1.4 (io), 50 PB1.3 (io), 51 PB1.2 (io), 52 PB1.1 (io), 53 PB1.0 (io), 55 RTC2, 56 RTC1, 57 ~{RESET} (in), 58 PB0.9/SWV (io), 59 PB0.8 (io), 60 PB0.7 (io), 61 PB0.6 (io), 62 PB0.5 (io), 63 PB0.4 (io), 64 PB0.3 (io)
part B pins: 6 VIO (power), 7 VIORF/VDRV (power), 8 VBAT/VBATDC (power), 9 IND, 10 VSS/VSSDC (power), 11 VDC (power), 41 VSS (power), 54 VLCD (power), 65 VSS (power)

## SiM3L166-C-GQ
designator U?
High-Performance, Low-Power, 32-Bit Precision32(TM) MCU Family, 50 MHz, 32 kB RAM, 256 kB Flash, -40 to 85 degC, 64-pin QFP; Manufacturer: Silicon Labs; PartNumber: SiM3L166-C-GQ; ADC 1: 12-bit, 23-ch., 250 ksps; Comparators: 2; DAC: 10-bit; Debug Interface: ETM; SW; Dig I/O Pins: 51; Flash: 256 kB; Internal Osc. Accuracy: +/-2%; MCU Core: ARM Cortex-M3; MHz: 50; PCA Channels: 6; RAM: 32 kB; Temp Sensor: TRUE; Timers (16-bit): 3; Sub-Family: Low-Power MCUs; DatasheetVersion: Rev. 0.5; PackageReference: TQFP-64; PackageDescription: 64-Pin Thin Quad Flat Package, Body 10 x 10 mm, Pitch 0.5 mm; Supplier 1: Digi-Key; Supplier Part Number 1: 336-2347-ND; Supplier 2: Mouser; Supplier Part Number 2: 634-SIM3L166-C-GQ; Mounting Technology: Surface Mount; Code_JEDEC: MS-026; Code_IPC: J-STD-020; ComponentLink1Description: Manufacturer URL; ComponentLink1URL: http://www.silabs.com/; ComponentLink2Description: Datasheet; ComponentLink2URL: http://www.silabs.com/Support Documents/TechnicalDocs/SiM3L1xx.pdf; ComponentLink3Description: Package Specification; ComponentLink3URL: http://www.silabs.com/Support%20Documents/TechnicalDocs/C8051F70x.pdf
footprint SLAB-TQFP-64_N (QFP, 64-Leads, Body 10x10mm, Pitch 0.5mm, IPC Medium Density)
footprint SLAB-TQFP-64_L (QFP, 64-Leads, Body 10x10mm, Pitch 0.5mm, IPC High Density)
footprint SLAB-TQFP-64_M (QFP, 64-Leads, Body 10x10mm, Pitch 0.5mm, IPC Low Density)
part A pins: 1 PB0.2 (io), 2 PB0.1 (io), 3 PB0.0 (io), 4 SWDIO (io), 5 SWCLK (in), 12 PB4.12/TRACECLK (io), 13 PB4.11/ETM0 (io), 14 PB4.10/ETM1 (io), 15 PB4.9/ETM2 (io), 16 PB4.8/ETM3 (io), 17 PB4.7 (io), 18 PB4.6 (io), 19 PB4.5 (io), 20 PB4.4 (io), 21 PB4.3 (io), 22 PB4.2 (io), 23 PB4.1 (io), 24 PB4.0 (io), 25 PB3.11 (io), 26 PB3.10 (io), 27 PB3.9 (io), 28 PB3.8 (io), 29 PB3.7 (io), 30 PB3.6 (io), 31 PB3.5 (io), 32 PB3.4 (io), 33 PB3.3 (io), 34 PB3.2 (io), 35 PB3.1 (io), 36 PB3.0 (io), 37 PB2.7 (io), 38 PB2.6 (io), 39 PB2.5 (io), 40 PB2.4 (io), 42 PB2.0 (io), 43 PB1.10 (io), 44 PB1.9 (io), 45 PB1.8 (io), 46 PB1.7 (io), 47 PB1.6 (io), 48 PB1.5 (io), 49 PB1.4 (io), 50 PB1.3 (io), 51 PB1.2 (io), 52 PB1.1 (io), 53 PB1.0 (io), 55 RTC2, 56 RTC1, 57 ~{RESET} (in), 58 PB0.9/SWV (io), 59 PB0.8 (io), 60 PB0.7 (io), 61 PB0.6 (io), 62 PB0.5 (io), 63 PB0.4 (io), 64 PB0.3 (io)
part B pins: 6 VIO (power), 7 VIORF/VDRV (power), 8 VBAT/VBATDC (power), 9 IND, 10 VSS/VSSDC (power), 11 VDC (power), 41 VSS (power), 54 VLCD (power)

## SiM3L167-C-GL
designator U?
High-Performance, Low-Power, 32-Bit Precision32(TM) MCU Family, 50 MHz, 32 kB RAM, 256 kB Flash, -40 to 85 degC, 80-pin BGA; Manufacturer: Silicon Labs; PartNumber: SiM3L167-C-GL; ADC 1: 12-bit, 24-ch., 250 ksps; Comparators: 2; DAC: 10-bit; Debug Interface: ETM; JTAG; SW; Dig I/O Pins: 62; Flash: 256 kB; Internal Osc. Accuracy: +/-2%; MCU Core: ARM Cortex-M3; MHz: 50; PCA Channels: 6; RAM: 32 kB; Temp Sensor: TRUE; Timers (16-bit): 3; Sub-Family: Low-Power MCUs; DatasheetVersion: Rev. 0.5; PackageReference: TFBGA-80; PackageDescription: 80-Ball TFBGA, Body 5.5 x 5.5 mm, Pitch 0.5 mm; Supplier 1: Mouser; Supplier Part Number 1: 634-SIM3L167-C-GL; Mounting Technology: Surface Mount; Code_IPC: J-STD-020; ComponentLink1Description: Manufacturer URL; ComponentLink1URL: http://www.silabs.com/; ComponentLink2Description: Datasheet; ComponentLink2URL: http://www.silabs.com/Support Documents/TechnicalDocs/SiM3L1xx.pdf; ComponentLink3Description: Package Specification; ComponentLink3URL: http://www.silabs.com/Support%20Documents/TechnicalDocs/SiM3L1xx.pdf
footprint SLAB-TFBGA-80 (BGA, 80-Balls, Body 5.5x5.5mm, Pitch 0.5mm)
part A pins: A1 PB0.3 (io), A2 PB0.5 (io), A3 PB0.7 (io), A4 PB0.9 (io), A5 PB0.11/TDO/SWV (io), A7 PB1.1 (io), A8 PB1.3 (io), A9 PB1.5 (io), A10 PB1.6/TDI (io), B1 PB0.2 (io), B2 PB0.4 (io), B3 PB0.6 (io), B4 PB0.8 (io), B5 PB0.10 (io), B6 PB1.0 (io), B7 PB1.2 (io), B8 PB1.4 (io), B9 PB1.7 (io), B10 PB1.8 (io), C2 PB0.1 (io), C4 ~{RESET} (in), C5 RTC1, C6 RTC2, C9 PB1.9 (io), C10 PB1.10 (io), D2 PB0.0 (io), D9 PB1.11 (io), D10 PB2.0 (io), E2 TCK/SWCLK (in), E8 PB2.5 (io), E9 PB2.1 (io), E10 PB2.4 (io), F2 TMS/SWDIO (io), F3 PB4.15/TRACECLK (io), F8 PB2.6 (io), F9 PB3.1 (io), F10 PB2.7 (io), G2 PB4.14/ETM0 (io), G8 PB3.0 (io), G9 PB3.3 (io), G10 PB3.2 (io), H1 PB4.13/ETM1 (io), H2 PB4.11/ETM3 (io), H4 PB4.5 (io), H6 PB4.0 (io), H9 PB3.5 (io), H10 PB3.4 (io), J1 PB4.12/ETM2 (io), J2 PB4.9 (io), J3 PB4.7 (io), J4 PB4.4 (io), J5 PB4.2 (io), J6 PB3.14 (io), J7 PB3.12 (io), J8 PB3.10 (io), J9 PB3.7 (io), J10 PB3.6 (io), K1 PB4.10 (io), K2 PB4.8 (io), K3 PB4.6 (io), K4 PB4.3 (io), K5 PB4.1 (io), K6 PB3.15 (io), K7 PB3.13 (io), K8 PB3.11 (io), K9 PB3.9 (io), K10 PB3.8 (io)
part B pins: A6 VLCD (power), C1 VIORF (power), C7 VSS (power), D1 VDRV (power), D3 VIO (power), D8 VIO (power), E1 VBAT/VBATDC (power), E3 VSS (power), F1 IND, G1 VDC (power), G3 VSS/VSSDC (power), H5 VSS (power), H7 VIO (power)

## SiM3L167-C-GQ
designator U?
High-Performance, Low-Power, 32-Bit Precision32(TM) MCU Family, 50 MHz, 32 kB RAM, 256 kB Flash, -40 to 85 degC, 80-pin QFP; Manufacturer: Silicon Labs; PartNumber: SiM3L167-C-GQ; ADC 1: 12-bit, 24-ch., 250 ksps; Comparators: 2; DAC: 10-bit; Debug Interface: ETM; JTAG; SW; Dig I/O Pins: 62; Flash: 256 kB; Internal Osc. Accuracy: +/-2%; MCU Core: ARM Cortex-M3; MHz: 50; PCA Channels: 6; RAM: 32 kB; Temp Sensor: TRUE; Timers (16-bit): 3; Sub-Family: Low-Power MCUs; DatasheetVersion: Rev. 0.5; PackageReference: TQFP-80; PackageDescription: 80-Pin Thin Quad Flat Package, Body 12 x 12 mm, Pitch 0.5 mm; Supplier 1: Digi-Key; Supplier Part Number 1: 336-2345-ND; Supplier 2: Mouser; Supplier Part Number 2: 634-SIM3L167-C-GQ; Mounting Technology: Surface Mount; Code_JEDEC: MS-026; Code_IPC: J-STD-020; ComponentLink1Description: Manufacturer URL; ComponentLink1URL: http://www.silabs.com/; ComponentLink2Description: Datasheet; ComponentLink2URL: http://www.silabs.com/Support Documents/TechnicalDocs/SiM3L1xx.pdf; ComponentLink3Description: Package Specification; ComponentLink3URL: http://www.silabs.com/Support%20Documents/TechnicalDocs/SiM3L1xx.pdf
footprint SLAB-TQFP-80_N (QFP, 80-Leads, Body 12x12mm, Pitch 0.5mm, IPC Medium Density)
footprint SLAB-TQFP-80_L (QFP, 80-Leads, Body 12x12mm, Pitch 0.5mm, IPC High Density)
footprint SLAB-TQFP-80_M (QFP, 80-Leads, Body 12x12mm, Pitch 0.5mm, IPC Low Density)
part A pins: 1 PB0.3 (io), 2 PB0.2 (io), 3 PB0.1 (io), 4 PB0.0 (io), 5 TMS/SWDIO (io), 6 TCK/SWCLK (in), 14 PB4.15/TRACECLK (io), 15 PB4.14/ETM0 (io), 16 PB4.13/ETM1 (io), 17 PB4.12/ETM2 (io), 18 PB4.11/ETM3 (io), 19 PB4.10 (io), 20 PB4.9 (io), 21 PB4.8 (io), 22 PB4.7 (io), 23 PB4.6 (io), 24 PB4.5 (io), 25 PB4.4 (io), 26 PB4.3 (io), 27 PB4.2 (io), 28 PB4.1 (io), 29 PB4.0 (io), 32 PB3.15 (io), 33 PB3.14 (io), 34 PB3.13 (io), 35 PB3.12 (io), 36 PB3.11 (io), 37 PB3.10 (io), 38 PB3.9 (io), 39 PB3.8 (io), 40 PB3.7 (io), 41 PB3.6 (io), 42 PB3.5 (io), 43 PB3.4 (io), 44 PB3.3 (io), 45 PB3.2 (io), 46 PB3.1 (io), 47 PB3.0 (io), 48 PB2.7 (io), 49 PB2.6 (io), 50 PB2.5 (io), 51 PB2.4 (io), 53 PB2.1 (io), 54 PB2.0 (io), 55 PB1.11 (io), 56 PB1.10 (io), 57 PB1.9 (io), 58 PB1.8 (io), 59 PB1.7 (io), 60 PB1.6/TDI (io), 61 PB1.5 (io), 62 PB1.4 (io), 63 PB1.3 (io), 64 PB1.2 (io), 65 PB1.1 (io), 66 PB1.0 (io), 69 RTC2, 70 RTC1, 72 ~{RESET} (in), 73 PB0.11/TDO/SWV (io), 74 PB0.10 (io), 75 PB0.9 (io), 76 PB0.8 (io), 77 PB0.7 (io), 78 PB0.6 (io), 79 PB0.5 (io), 80 PB0.4 (io)
part B pins: 7 VIO (power), 8 VIORF (power), 9 VDRV (power), 10 VBAT/VBATDC (power), 11 IND, 12 VSS/VSSDC (power), 13 VDC (power), 30 VIO (power), 31 VSS (power), 52 VSS (power), 67 VLCD (power), 68 VIO (power), 71 VSS (power)